# Altium footprint library SOD-123.PcbLib: 1 footprints
Each footprint in its own frame and in the unit in brackets; x right, y up, seen from the top. Pads: shape width x height; smd on the part's side, far side on the other; paste and mask are expansions set on the pad; w line width, h text height; cw(c..) or ccw(c..) is an arc to the next point about the centre after c.
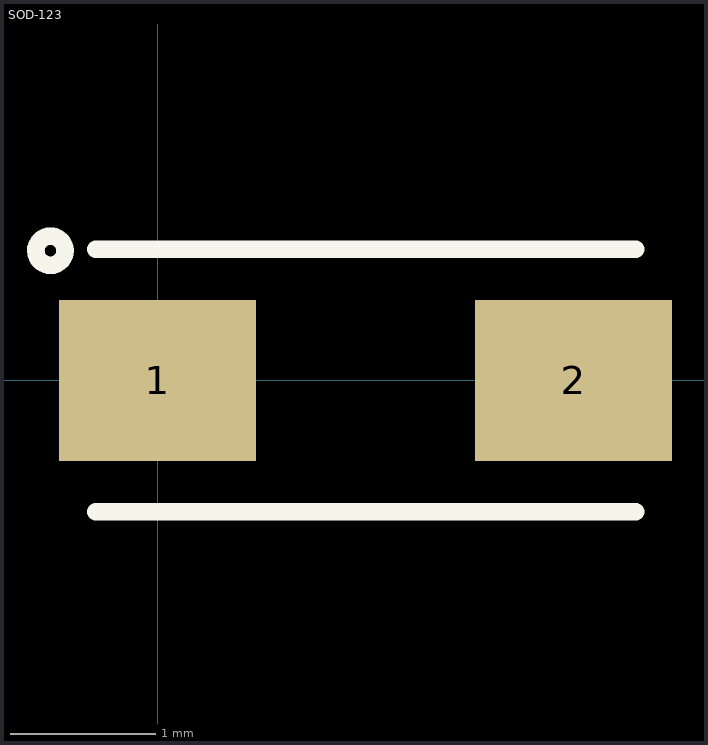
[diagram p0: the footprint, top view; thin cyan lines are the x and y axes]

## SOD-123 [mm]
height 0.98
pads (2):
  rect 1.35x1.1 smd: 1(0,0) 2(2.85,0)
Top Overlay:
  lines w0.12: -0.634,0.889 cw(c-0.734,0.889) -0.634,0.893 ; -0.425,-0.9 3.275,-0.9 ; -0.425,0.9 3.275,0.9
3D body "SOD-123.step": height 1.19, standoff -0.01, extent -0.375,-0.8 3.225,0.8